# Altium footprint library Jaden.PcbLib: 5 footprints
Each footprint in its own frame and in the unit in brackets; x right, y up, seen from the top. Pads: shape width x height; smd on the part's side, far side on the other; paste and mask are expansions set on the pad; w line width, h text height; cw(c..) or ccw(c..) is an arc to the next point about the centre after c.
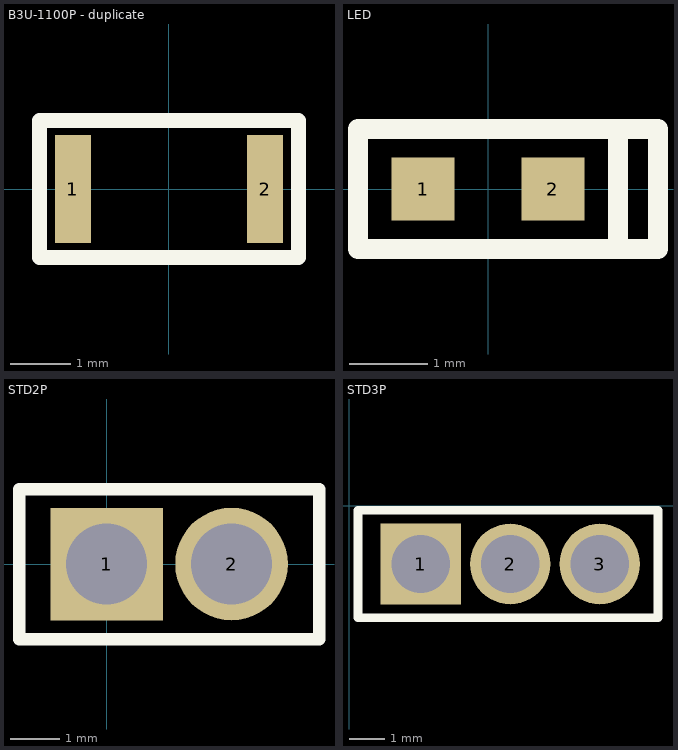
[diagram p0: the footprints below, top view; thin cyan lines are the x and y axes]

## B3U-1100P [mil]

## B3U-1100P - duplicate [mm]
pads (2):
  rect 0.6x1.8 smd: 1(-1.6,0) 2(1.6,0)
Top Overlay:
  lines w0.254: -2.159,-1.143 2.159,-1.143 2.159,1.143 -2.159,1.143 -2.159,-0.905 -2.159,-1.143

## LED [mm]
pads (2):
  rect 0.8x0.8 smd: 1(-0.825,0) 2(0.825,0)
Top Overlay:
  lines w0.254: 1.651,-0.762 1.651,0.762 ; -1.651,-0.762 2.159,-0.762 2.159,-0.381 2.159,0.381 2.159,0.762 -1.651,0.762 -1.651,-0.762

## STD2P [mil]
pads (2):
  rect 90x90 hole 65: 1(0,0)
  round 90 hole 65: 2(100,0)
Top Overlay:
  lines w10: -70,-60 -70,60 170,60 170,0 170,-60 -70,-60
Mechanical 1:
  region: -65,55

## STD3P [mil]
pads (3):
  rect 90x90 hole 65: 1(80,-65)
  round 90 hole 65: 2(180,-65) 3(280,-65)
Top Overlay:
  lines w10: 10,-125 345,-125 345,-5 10,-5 10,-125